# Altium footprint library Capacitor Polar Radial Cylinder.PcbLib: 81 footprints (part 5 of 6)
Each footprint in its own frame and in the unit in brackets; x right, y up, seen from the top. Pads: shape width x height; smd on the part's side, far side on the other; paste and mask are expansions set on the pad; w line width, h text height; cw(c..) or ccw(c..) is an arc to the next point about the centre after c.
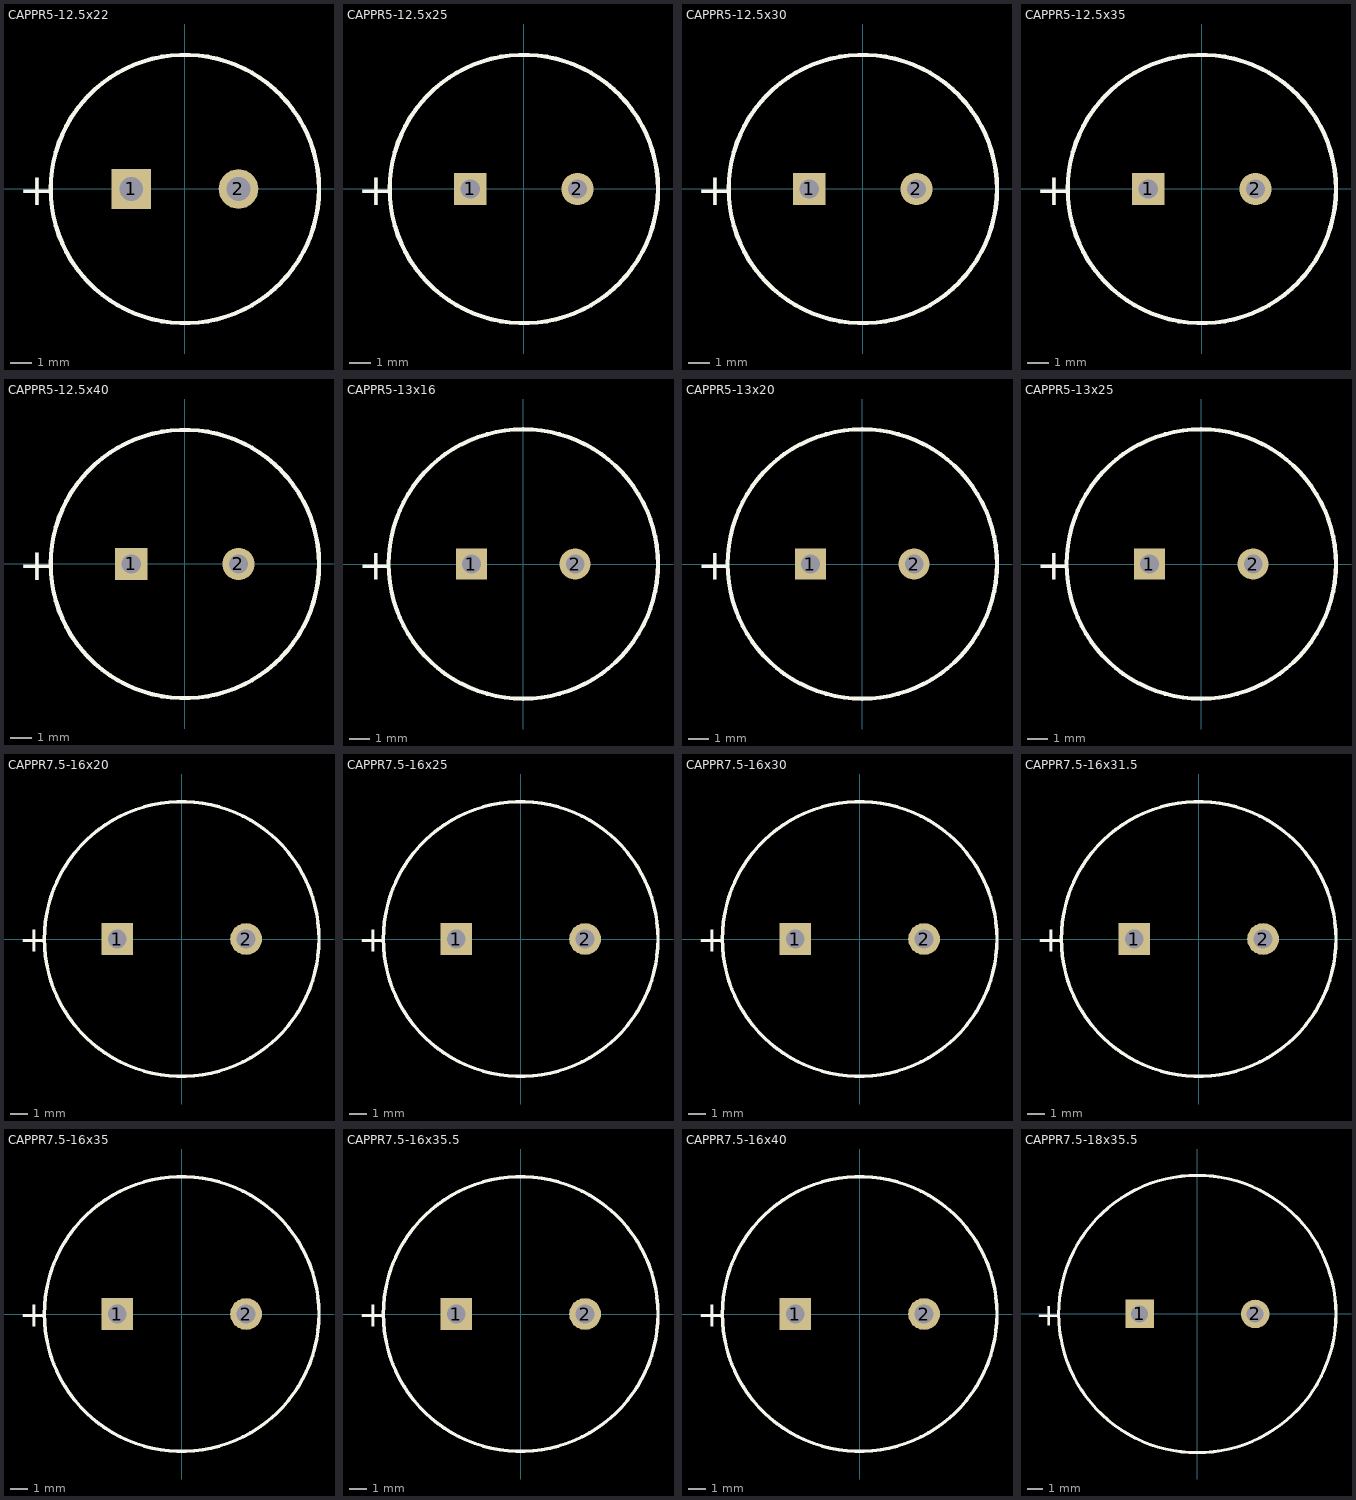
[diagram p4: the footprints below, top view; thin cyan lines are the x and y axes]

## CAPPR5-12.5x22 [mm] "Capacitor, Electrolytic, Radial; Body 12.5 x 22 mm (Dia.xH typ); Pin Spacing 5 mm (typ)"
height 23
pads (2):
  rect 1.85x1.85 hole 1.1: 1(-2.5,0)
  round 1.85 hole 1.1: 2(2.5,0)
Top Overlay:
  circle w0.2: c0,0 r6.25
  text "+" at -7.725,-0.75 h1.5

## CAPPR5-12.5x25 [mm] "Capacitor, Electrolytic, Radial; Body 12.5 x 25 mm (Dia.xH typ); Pin Spacing 5 mm (typ)"
height 26.5
pads (2):
  rect 1.5x1.5 hole 0.9: 1(-2.5,0)
  round 1.5 hole 0.9: 2(2.5,0)
Top Overlay:
  circle w0.2: c0,0 r6.25
  text "+" at -7.725,-0.75 h1.5

## CAPPR5-12.5x30 [mm] "Capacitor, Electrolytic, Radial; Body 12.5 x 30 mm (Dia.xH typ); Pin Spacing 5 mm (typ)"
height 31.5
pads (2):
  rect 1.5x1.5 hole 0.9: 1(-2.5,0)
  round 1.5 hole 0.9: 2(2.5,0)
Top Overlay:
  circle w0.2: c0,0 r6.25
  text "+" at -7.725,-0.75 h1.5

## CAPPR5-12.5x35 [mm] "Capacitor, Electrolytic, Radial; Body 12.5 x 35 mm (Dia.xH typ); Pin Spacing 5 mm (typ)"
height 36.5
pads (2):
  rect 1.5x1.5 hole 0.9: 1(-2.5,0)
  round 1.5 hole 0.9: 2(2.5,0)
Top Overlay:
  circle w0.2: c0,0 r6.25
  text "+" at -7.725,-0.75 h1.5

## CAPPR5-12.5x40 [mm] "Capacitor, Electrolytic, Radial; Body 12.5 x 40 mm (Dia.xH typ); Pin Spacing 5 mm (typ)"
height 41.5
pads (2):
  rect 1.5x1.5 hole 0.9: 1(-2.5,0)
  round 1.5 hole 0.9: 2(2.5,0)
Top Overlay:
  circle w0.2: c0,0 r6.25
  text "+" at -7.725,-0.75 h1.5

## CAPPR5-13x16 [mm] "Capacitor, Electrolytic, Radial; Body 13 x 16 mm (Dia.xH typ); Pin Spacing 5 mm (typ)"
height 18
pads (2):
  rect 1.5x1.5 hole 0.9: 1(-2.5,0)
  round 1.5 hole 0.9: 2(2.5,0)
Top Overlay:
  circle w0.2: c0,0 r6.5
  text "+" at -7.975,-0.75 h1.5

## CAPPR5-13x20 [mm] "Capacitor, Electrolytic, Radial; Body 13 x 20 mm (Dia.xH typ); Pin Spacing 5 mm (typ)"
height 22
pads (2):
  rect 1.5x1.5 hole 0.9: 1(-2.5,0)
  round 1.5 hole 0.9: 2(2.5,0)
Top Overlay:
  circle w0.2: c0,0 r6.5
  text "+" at -7.975,-0.75 h1.5

## CAPPR5-13x25 [mm] "Capacitor, Electrolytic, Radial; Body 13 x 25 mm (Dia.xH typ); Pin Spacing 5 mm (typ)"
height 27
pads (2):
  rect 1.5x1.5 hole 0.9: 1(-2.5,0)
  round 1.5 hole 0.9: 2(2.5,0)
Top Overlay:
  circle w0.2: c0,0 r6.5
  text "+" at -7.975,-0.75 h1.5

## CAPPR7.5-16x20 [mm] "Capacitor, Electrolytic, Radial; Body 16 x 20 mm (Dia.xH typ); Pin Spacing 7.5 mm (typ)"
height 21.5
pads (2):
  rect 1.85x1.85 hole 1.1: 1(-3.75,0)
  round 1.85 hole 1.1: 2(3.75,0)
Top Overlay:
  circle w0.2: c0,0 r8
  text "+" at -9.475,-0.75 h1.5

## CAPPR7.5-16x25 [mm] "Capacitor, Electrolytic, Radial; Body 16 x 25 mm (Dia.xH typ); Pin Spacing 7.5 mm (typ)"
height 26
pads (2):
  rect 1.85x1.85 hole 1.1: 1(-3.75,0)
  round 1.85 hole 1.1: 2(3.75,0)
Top Overlay:
  circle w0.2: c0,0 r8
  text "+" at -9.475,-0.75 h1.5

## CAPPR7.5-16x30 [mm] "Capacitor, Electrolytic, Radial; Body 16 x 30 mm (Dia.xH typ); Pin Spacing 7.5 mm (typ)"
height 31.5
pads (2):
  rect 1.85x1.85 hole 1.1: 1(-3.75,0)
  round 1.85 hole 1.1: 2(3.75,0)
Top Overlay:
  circle w0.2: c0,0 r8
  text "+" at -9.475,-0.75 h1.5

## CAPPR7.5-16x31.5 [mm] "Capacitor, Electrolytic, Radial; Body 16 x 31.5 mm (Dia.xH typ); Pin Spacing 7.5 mm (typ)"
height 33.5
pads (2):
  rect 1.85x1.85 hole 1.1: 1(-3.75,0)
  round 1.85 hole 1.1: 2(3.75,0)
Top Overlay:
  circle w0.2: c0,0 r8
  text "+" at -9.475,-0.75 h1.5

## CAPPR7.5-16x35 [mm] "Capacitor, Electrolytic, Radial; Body 16 x 35 mm (Dia.xH typ); Pin Spacing 7.5 mm (typ)"
height 36.5
pads (2):
  rect 1.85x1.85 hole 1.1: 1(-3.75,0)
  round 1.85 hole 1.1: 2(3.75,0)
Top Overlay:
  circle w0.2: c0,0 r8
  text "+" at -9.475,-0.75 h1.5

## CAPPR7.5-16x35.5 [mm] "Capacitor, Electrolytic, Radial; Body 16 x 35.5 mm (Dia.xH typ); Pin Spacing 7.5 mm (typ)"
height 37.5
pads (2):
  rect 1.85x1.85 hole 1.1: 1(-3.75,0)
  round 1.85 hole 1.1: 2(3.75,0)
Top Overlay:
  circle w0.2: c0,0 r8
  text "+" at -9.475,-0.75 h1.5

## CAPPR7.5-16x40 [mm] "Capacitor, Electrolytic, Radial; Body 16 x 40 mm (Dia.xH typ); Pin Spacing 7.5 mm (typ)"
height 41.5
pads (2):
  rect 1.85x1.85 hole 1.1: 1(-3.75,0)
  round 1.85 hole 1.1: 2(3.75,0)
Top Overlay:
  circle w0.2: c0,0 r8
  text "+" at -9.475,-0.75 h1.5

## CAPPR7.5-18x35.5 [mm] "Capacitor, Electrolytic, Radial; Body 18 x 35.5 mm (Dia.xH typ); Pin Spacing 7.5 mm (typ)"
height 37.5
pads (2):
  rect 1.85x1.85 hole 1.1: 1(-3.75,0)
  round 1.85 hole 1.1: 2(3.75,0)
Top Overlay:
  circle w0.2: c-0.004,-0.001 r9
  text "+" at -10.475,-0.75 h1.5